# Altium schematic symbol library IGBT-N-GCE.SchLib: 1 symbol
Pins are listed as number, name and electrical type; pins without a type are passive.

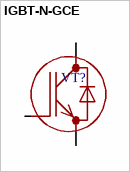
[diagram p0: symbol IGBT-N-GCE]

## IGBT-N-GCE
designator VT?
footprint TO-92
footprint SOT23-3
footprint TO-252
footprint TO-220-3
footprint TO-247-3
footprint SOT-223-3
footprint TO-220-3-BEND
pins: 1 G, 2 C, 3 E